# EAGLE library part 40PIN_DIP_ADAPTER (library MISC)
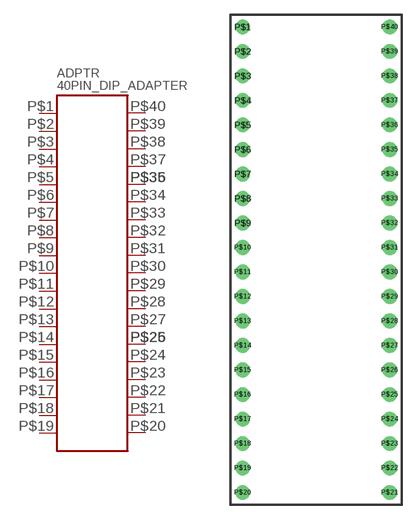
[diagram p0: symbol with the pads of 40PIN_PDIP; footprint 40PIN_PDIP]

Designator prefix ADPTR

## 40PIN_DIP_ADAPTER  [40PIN_PDIP]
P$1  P$1
P$2  P$2
P$3  P$3
P$4  P$4
P$5  P$5
P$6  P$6
P$7  P$7
P$8  P$8
P$9  P$9
P$10  P$10
P$11  P$11
P$12  P$12
P$13  P$13
P$14  P$14
P$15  P$15
P$16  P$16
P$17  P$17
P$18  P$18
P$19  P$19
P$20  P$20
P$21  P$21
P$22  P$22
P$23  P$23
P$24  P$24
P$25  P$25
P$26  P$26
P$27  P$27
P$28  P$28
P$29  P$29
P$30  P$30
P$31  P$31
P$32  P$32
P$33  P$33
P$34  P$34
P$35  P$35
P$36  P$36
P$37  P$37
P$38  P$38
P$39  P$39
P$40  P$40

## Footprint 40PIN_PDIP (pad centres in mm)
drill 1: P$1 -7.5,23.75; P$2 -7.5,21.25; P$3 -7.5,18.75; P$4 -7.5,16.25; P$5 -7.5,13.75; P$6 -7.5,11.25; P$7 -7.5,8.75; P$8 -7.5,6.25; P$9 -7.5,3.75; P$10 -7.5,1.25; P$11 -7.5,-1.25; P$12 -7.5,-3.75; P$13 -7.5,-6.25; P$14 -7.5,-8.75; P$15 -7.5,-11.25; P$16 -7.5,-13.75; P$17 -7.5,-16.25; P$18 -7.5,-18.75; P$19 -7.5,-21.25; P$20 -7.5,-23.75; P$21 7.5,-23.75; P$22 7.5,-21.25; P$23 7.5,-18.75; P$24 7.5,-16.25; P$25 7.5,-13.75; P$26 7.5,-11.25; P$27 7.5,-8.75; P$28 7.5,-6.25; P$29 7.5,-3.75; P$30 7.5,-1.25; P$31 7.5,1.25; P$32 7.5,3.75; P$33 7.5,6.25; P$34 7.5,8.75; P$35 7.5,11.25; P$36 7.5,13.75; P$37 7.5,16.25; P$38 7.5,18.75; P$39 7.5,21.25; P$40 7.5,23.75